# EAGLE library part LM3876 (library Audio-Power-amplifier)
Audio Power Amplifier Series High-Performance 56W Audio Power Amplifier w/Mute
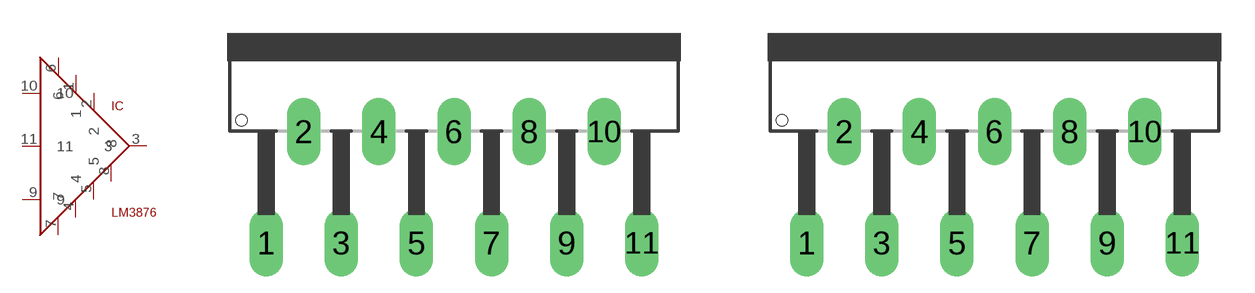
[diagram p51: symbol with the pads of TA11B; footprints TA11B, TF11B]

Designator prefix IC

## LM3876  [TA11B]
1  1  pwr
2  2  nc
3  3  out
4  4  pwr
5  5  nc
6  6  nc
7  7  pwr
8  8
9  9
10  10  in
11  11  nc

## LM3876TF11B  [TF11B]
Pads as for TA11B

## Footprint TA11B (pad centres in mm)
TO-220 11 lead, National Semiconductor
drill 1.016 long: 1 -8.509,-9.525; 2 -6.807,-4.47; 3 -5.105,-9.525; 4 -3.404,-4.47; 5 -1.702,-9.525; 6 0,-4.47; 7 1.702,-9.525; 8 3.404,-4.47; 9 5.105,-9.525; 10 6.807,-4.47; 11 8.509,-9.525

## Footprint TF11B (pad centres in mm)
TO-220 11 lead, National Semiconductor
drill 1.016 long: 1 -8.509,-9.525; 2 -6.807,-4.47; 3 -5.105,-9.525; 4 -3.404,-4.47; 5 -1.702,-9.525; 6 0,-4.47; 7 1.702,-9.525; 8 3.404,-4.47; 9 5.105,-9.525; 10 6.807,-4.47; 11 8.509,-9.525